# EAGLE library part ADXL330 (library adxl)
adxl adxl330 lfcsp lfcsp16 lfcsp-16
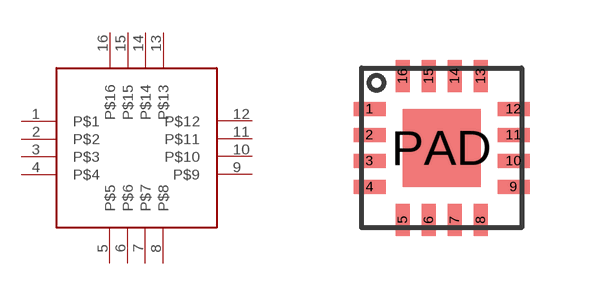
[diagram p0: symbol with the pads of LFCSP-16; footprint LFCSP-16]

Designator prefix -

## ADXL330  [LFCSP-16]
1  P$1  nc
2  P$2
3  P$3  pwr
4  P$4  nc
5  P$5  pwr
6  P$6  pwr
7  P$7  pwr
8  P$8  out
9  P$9  nc
10  P$10  out
11  P$11  nc
12  P$12  out
13  P$13  nc
14  P$14  pwr
15  P$15  pwr
16  P$16  nc

## Footprint LFCSP-16 (pad centres in mm)
lfcsp lfcsp-16
smd 0.8 x 0.35: 1 -1.8,0.975; 2 -1.8,0.325; 3 -1.8,-0.325; 4 -1.8,-0.975; 9 1.8,-0.975; 10 1.8,-0.325; 11 1.8,0.325; 12 1.8,0.975
smd 0.35 x 0.8: 5 -0.975,-1.8; 6 -0.325,-1.8; 7 0.325,-1.8; 8 0.975,-1.8; 13 0.975,1.8; 14 0.325,1.8; 15 -0.325,1.8; 16 -0.975,1.8
smd 1.95 x 1.95: PAD 0,0